# EAGLE library part MCP2515T-I/ST (library RoboJackets-ICs)
CANbus Controller CAN 2.0 SPI Interface 20-TSSOP Datasheet <https://ww1.microchip.com/downloads/en/DeviceDoc/MCP2515-Stand-Alone-CAN-Controller-with-SPI-20001801J.pdf>
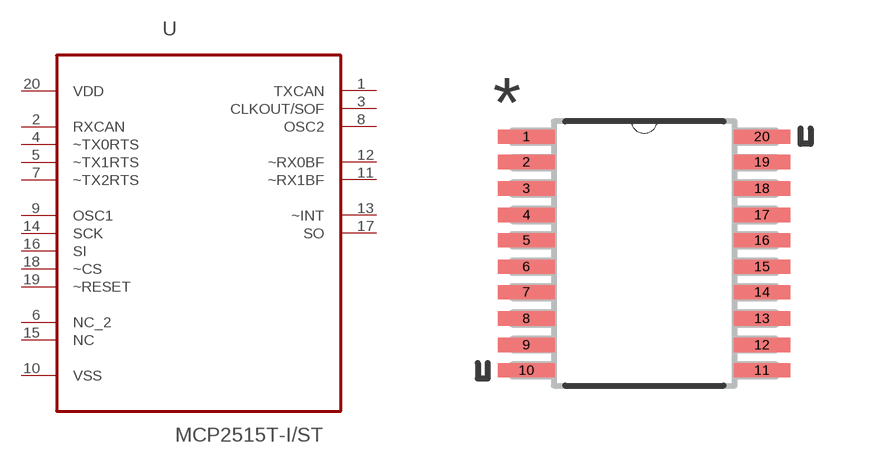
[diagram p28: symbol with the pads of SOP65P640X110-20N; footprint SOP65P640X110-20N]

Designator prefix -

## MCP2515T-I/ST (DKPN: MCP2515T-I/STCT-ND)  [SOP65P640X110-20N]
1  TXCAN  out
2  RXCAN  in
3  CLKOUT/SOF  out
4  ~TX0RTS  in
5  ~TX1RTS  in
6  NC_2  nc
7  ~TX2RTS  in
8  OSC2  out
9  OSC1  in
10  VSS  pwr
11  ~RX1BF  out
12  ~RX0BF  out
13  ~INT  out
14  SCK  in
15  NC  nc
16  SI  in
17  SO  out
18  ~CS  in
19  ~RESET  in
20  VDD  pwr

## Footprint SOP65P640X110-20N (pad centres in mm)
smd 1.422 x 0.356: 1 -2.946,2.921; 2 -2.946,2.286; 3 -2.946,1.626; 4 -2.946,0.965; 5 -2.946,0.33; 6 -2.946,-0.33; 7 -2.946,-0.965; 8 -2.946,-1.626; 9 -2.946,-2.286; 10 -2.946,-2.921; 11 2.946,-2.921; 12 2.946,-2.286; 13 2.946,-1.626; 14 2.946,-0.965; 15 2.946,-0.33; 16 2.946,0.33; 17 2.946,0.965; 18 2.946,1.626; 19 2.946,2.286; 20 2.946,2.921